# Altium integrated library C4532X7R1C336M250KC.IntLib: 2 symbols
Pins are listed as number, name and electrical type; pins without a type are passive.

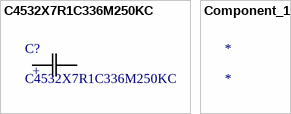
[diagram p0: symbols C4532X7R1C336M250KC to Component_1]

## C4532X7R1C336M250KC
designator C?
No Description Available; Mfr_Name: TDK; Type: DEV; Copyright: Copyright (C) 2022 Ultra Librarian. All rights reserved.; Manufacturer_Part_Number: C4532X7R1C336M250KC; RefDes: RefDes
footprint CAP_4532_TDK
pins: 1, 2
text: +

## Component_1
designator *